# Altium schematic symbol library StandartLogic.SchLib: 4 symbols
Pins are listed as number, name and electrical type; pins without a type are passive.

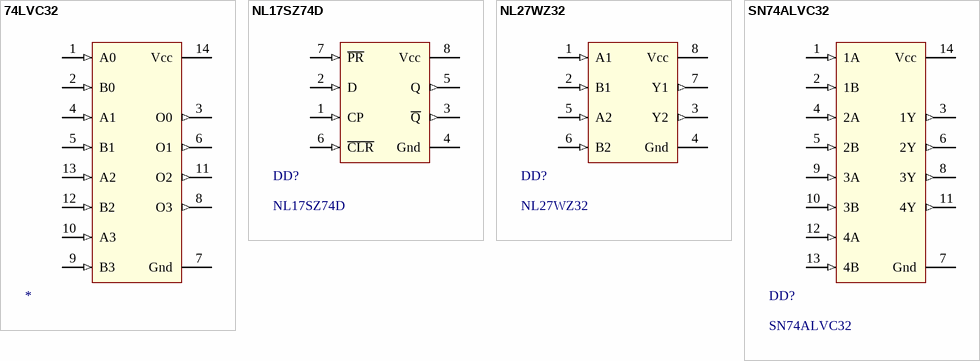
[diagram p0: symbols 74LVC32 to SN74ALVC32]

## 74LVC32
designator *  (value not drawn)
footprint SO-14
pins: 1 A0 (in), 2 B0 (in), 3 O0 (out), 4 A1 (in), 5 B1 (in), 6 O1 (out), 7 Gnd (power), 8 O3 (out), 9 B3 (in), 10 A3 (in), 11 O2 (out), 12 B2 (in), 13 A2 (in), 14 Vcc (power)

## NL17SZ74D
designator DD?
footprint US8 CASE493-02
pins: 1 CP (in), 2 D (in), 3 ~{Q} (out), 4 Gnd (power), 5 Q (out), 6 ~{CLR} (in), 7 ~{PR} (in), 8 Vcc (power)

## NL27WZ32
designator DD?
footprint US8 CASE493-02
pins: 1 A1 (in), 2 B1 (in), 3 Y2 (out), 4 Gnd (power), 5 A2 (in), 6 B2 (in), 7 Y1 (out), 8 Vcc (power)

## SN74ALVC32
designator DD?
footprint SO-14
pins: 1 1A (in), 2 1B (in), 3 1Y (out), 4 2A (in), 5 2B (in), 6 2Y (out), 7 Gnd (power), 8 3Y (out), 9 3A (in), 10 3B (in), 11 4Y (out), 12 4A (in), 13 4B (in), 14 Vcc (power)